# EAGLE library part ARDUINO_MEGA_SHIELD (library FaBo-Boards)
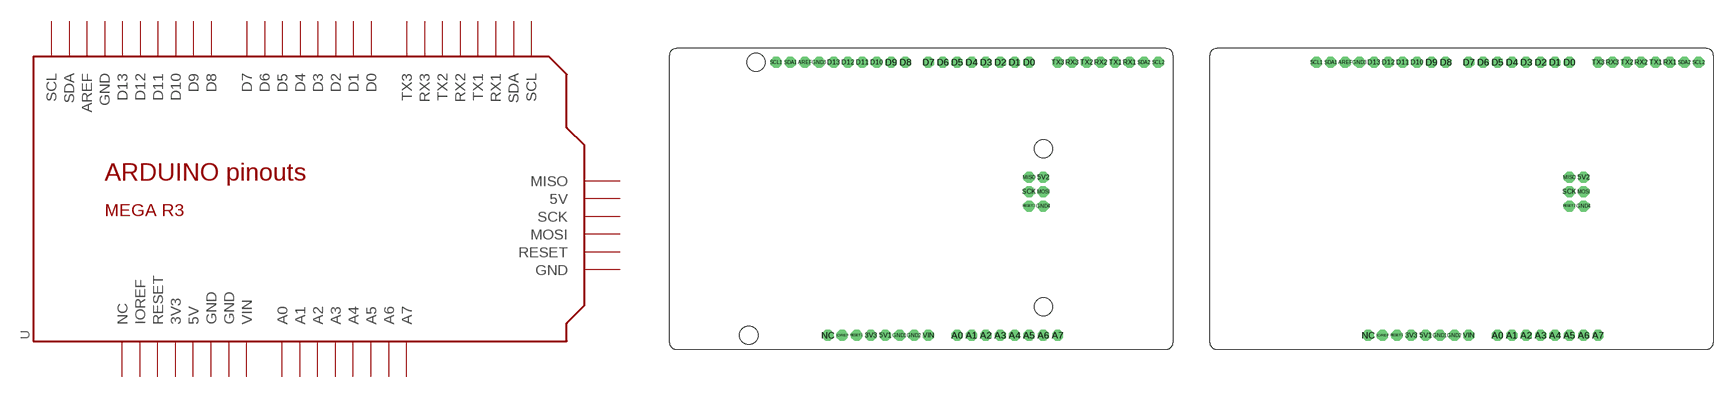
[diagram p8: symbol with the pads of ARDUINO_MEGA_SHIELD; footprints ARDUINO_MEGA_SHIELD, ARDUINO_MEGA_SHIELD_NOHOLE]

Designator prefix U

## ARDUINO_MEGA_SHIELD  [ARDUINO_MEGA_SHIELD]
3V3  3V3  pwr
5V1  5V  pwr
5V2  5V
A0  A0
A1  A1
A2  A2
A3  A3
A4  A4
A5  A5
A6  A6
A7  A7
AREF  AREF
D0  D0
D1  D1
D2  D2
D3  D3
D4  D4
D5  D5
D6  D6
D7  D7
D8  D8
D9  D9
D10  D10
D11  D11
D12  D12
D13  D13
GND1  GND  pwr
GND2  GND  pwr
GND3  GND  pwr
GND4  GND
IOREF  IOREF  out
MISO  MISO
MOSI  MOSI
NC  NC  nc
RESET1  RESET
RESET2  RESET
RX1  RX1
RX2  RX2
RX3  RX3
SCK  SCK
SCL1  SCL
SCL2  SCL
SDA1  SDA
SDA2  SDA
TX1  TX1
TX2  TX2
TX3  TX3
VIN  VIN  pwr

## ARDUINO_MEGA_SHIELD-NOHOLE  [ARDUINO_MEGA_SHIELD_NOHOLE]
Pads as for ARDUINO_MEGA_SHIELD

## Footprint ARDUINO_MEGA_SHIELD (pad centres in mm)
drill 1.1 pad 1.93 octagon: 3V3 35.56,2.54; 5V1 38.1,2.54; 5V2 66.04,30.48; A0 50.8,2.54; A1 53.34,2.54; A2 55.88,2.54; A3 58.42,2.54; A4 60.96,2.54; A5 63.5,2.54; A6 66.04,2.54; A7 68.58,2.54; AREF 23.876,50.8; D0 63.5,50.8; D1 60.96,50.8; D2 58.42,50.8; D3 55.88,50.8; D4 53.34,50.8; D5 50.8,50.8; D6 48.26,50.8; D7 45.72,50.8; D8 41.656,50.8; D9 39.116,50.8; D10 36.576,50.8; D11 34.036,50.8; D12 31.496,50.8; D13 28.956,50.8; GND1 40.64,2.54; GND2 43.18,2.54; GND3 26.416,50.8; GND4 66.04,25.4; IOREF 30.48,2.54; MISO 63.5,30.48; MOSI 66.04,27.94; NC 27.94,2.54; RESET1 33.02,2.54; RESET2 63.5,25.4; RX1 81.28,50.8; RX2 76.2,50.8; RX3 71.12,50.8; SCK 63.5,27.94; SCL1 18.796,50.8; SCL2 86.36,50.8; SDA1 21.336,50.8; SDA2 83.82,50.8; TX1 78.74,50.8; TX2 73.66,50.8; TX3 68.58,50.8; VIN 45.72,2.54
hole 3.2 at 15.24,50.8
hole 3.2 at 13.97,2.54
hole 3.2 at 66.04,35.56
hole 3.2 at 66.04,7.62

## Footprint ARDUINO_MEGA_SHIELD_NOHOLE (pad centres in mm)
drill 1.1 pad 1.93 octagon: 3V3 35.56,2.54; 5V1 38.1,2.54; 5V2 66.04,30.48; A0 50.8,2.54; A1 53.34,2.54; A2 55.88,2.54; A3 58.42,2.54; A4 60.96,2.54; A5 63.5,2.54; A6 66.04,2.54; A7 68.58,2.54; AREF 23.876,50.8; D0 63.5,50.8; D1 60.96,50.8; D2 58.42,50.8; D3 55.88,50.8; D4 53.34,50.8; D5 50.8,50.8; D6 48.26,50.8; D7 45.72,50.8; D8 41.656,50.8; D9 39.116,50.8; D10 36.576,50.8; D11 34.036,50.8; D12 31.496,50.8; D13 28.956,50.8; GND1 40.64,2.54; GND2 43.18,2.54; GND3 26.416,50.8; GND4 66.04,25.4; IOREF 30.48,2.54; MISO 63.5,30.48; MOSI 66.04,27.94; NC 27.94,2.54; RESET1 33.02,2.54; RESET2 63.5,25.4; RX1 81.28,50.8; RX2 76.2,50.8; RX3 71.12,50.8; SCK 63.5,27.94; SCL1 18.796,50.8; SCL2 86.36,50.8; SDA1 21.336,50.8; SDA2 83.82,50.8; TX1 78.74,50.8; TX2 73.66,50.8; TX3 68.58,50.8; VIN 45.72,2.54